# EAGLE library part LAN9512 (library ruark2)
Ethernet Bridge, USB to Ethernet USB 2.0, 10/100 Base-T/TX PHY USB Interface 64-QFN (9x9)
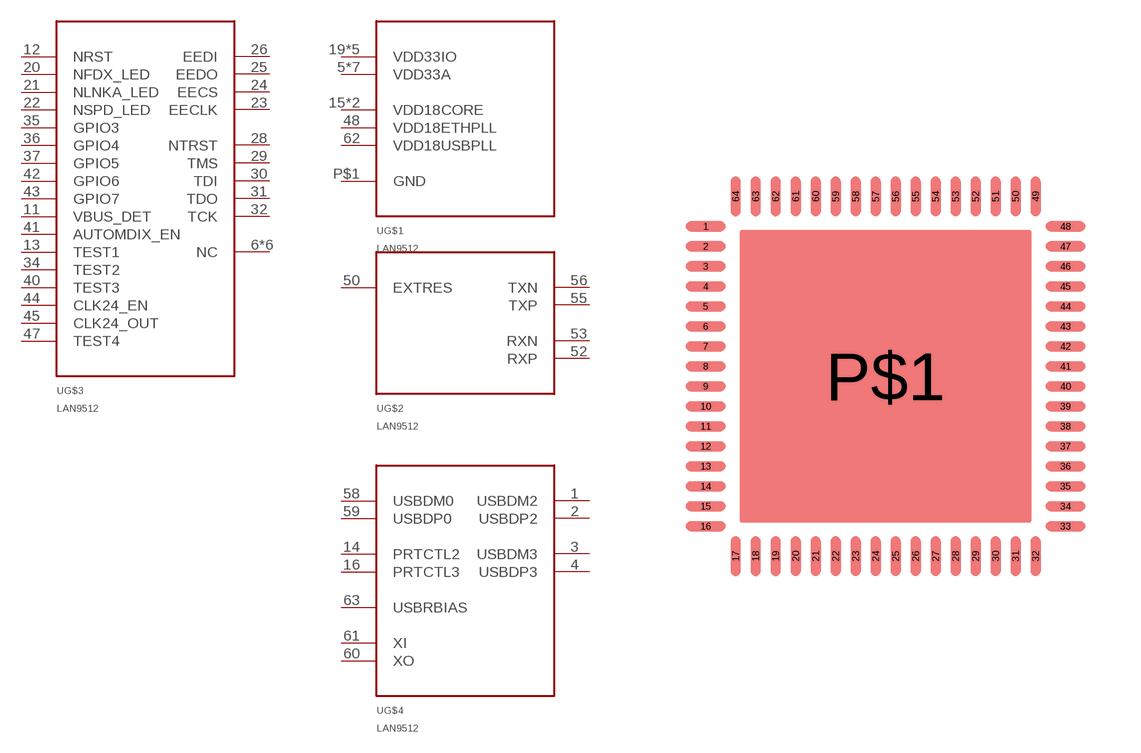
[diagram p85: symbol with the pads of 64QFN_9X9; footprint 64QFN_9X9]

Designator prefix U; gates G$1=LAN9512 G$2=LAN9512_EPHY G$3=LAN9512_MISC G$4=LAN9512_USB

## LAN9512 (PARTNO: 638-1086-ND)  [64QFN_9X9]
1  G$4:USBDM2
2  G$4:USBDP2
3  G$4:USBDM3
4  G$4:USBDP3
5  G$1:VDD33A
6  G$3:NC
7  G$3:NC
8  G$3:NC
9  G$3:NC
10  G$1:VDD33A
11  G$3:VBUS_DET
12  G$3:NRST
13  G$3:TEST1
14  G$4:PRTCTL2
15  G$1:VDD18CORE
16  G$4:PRTCTL3
17  G$3:NC
18  G$3:NC
19  G$1:VDD33IO
20  G$3:NFDX_LED
21  G$3:NLNKA_LED
22  G$3:NSPD_LED
23  G$3:EECLK
24  G$3:EECS
25  G$3:EEDO
26  G$3:EEDI
27  G$1:VDD33IO
28  G$3:NTRST
29  G$3:TMS
30  G$3:TDI
31  G$3:TDO
32  G$3:TCK
33  G$1:VDD33IO
34  G$3:TEST2
35  G$3:GPIO3
36  G$3:GPIO4
37  G$3:GPIO5
38  G$1:VDD18CORE
39  G$1:VDD33IO
40  G$3:TEST3
41  G$3:AUTOMDIX_EN
42  G$3:GPIO6
43  G$3:GPIO7
44  G$3:CLK24_EN
45  G$3:CLK24_OUT
46  G$1:VDD33IO
47  G$3:TEST4
48  G$1:VDD18ETHPLL
49  G$1:VDD33A
50  G$2:EXTRES
51  G$1:VDD33A
52  G$2:RXP
53  G$2:RXN
54  G$1:VDD33A
55  G$2:TXP
56  G$2:TXN
57  G$1:VDD33A
58  G$4:USBDM0
59  G$4:USBDP0
60  G$4:XO
61  G$4:XI
62  G$1:VDD18USBPLL
63  G$4:USBRBIAS
64  G$1:VDD33A
P$1  G$1:GND

## Footprint 64QFN_9X9 (pad centres in mm)
smd 1 x 0.25: 1 -4.5,3.75; 2 -4.5,3.25; 3 -4.5,2.75; 4 -4.5,2.25; 5 -4.5,1.75; 6 -4.5,1.25; 7 -4.5,0.75; 8 -4.5,0.25; 9 -4.5,-0.25; 10 -4.5,-0.75; 11 -4.5,-1.25; 12 -4.5,-1.75; 13 -4.5,-2.25; 14 -4.5,-2.75; 15 -4.5,-3.25; 16 -4.5,-3.75; 33 4.5,-3.75; 34 4.5,-3.25; 35 4.5,-2.75; 36 4.5,-2.25; 37 4.5,-1.75; 38 4.5,-1.25; 39 4.5,-0.75; 40 4.5,-0.25; 41 4.5,0.25; 42 4.5,0.75; 43 4.5,1.25; 44 4.5,1.75; 45 4.5,2.25; 46 4.5,2.75; 47 4.5,3.25; 48 4.5,3.75
smd 0.25 x 1: 17 -3.75,-4.5; 18 -3.25,-4.5; 19 -2.75,-4.5; 20 -2.25,-4.5; 21 -1.75,-4.5; 22 -1.25,-4.5; 23 -0.75,-4.5; 24 -0.25,-4.5; 25 0.25,-4.5; 26 0.75,-4.5; 27 1.25,-4.5; 28 1.75,-4.5; 29 2.25,-4.5; 30 2.75,-4.5; 31 3.25,-4.5; 32 3.75,-4.5; 49 3.75,4.5; 50 3.25,4.5; 51 2.75,4.5; 52 2.25,4.5; 53 1.75,4.5; 54 1.25,4.5; 55 0.75,4.5; 56 0.25,4.5; 57 -0.25,4.5; 58 -0.75,4.5; 59 -1.25,4.5; 60 -1.75,4.5; 61 -2.25,4.5; 62 -2.75,4.5; 63 -3.25,4.5; 64 -3.75,4.5
smd 7.3 x 7.3: P$1 0,0